# EAGLE library part 7818 (library 000_VansAircraft)
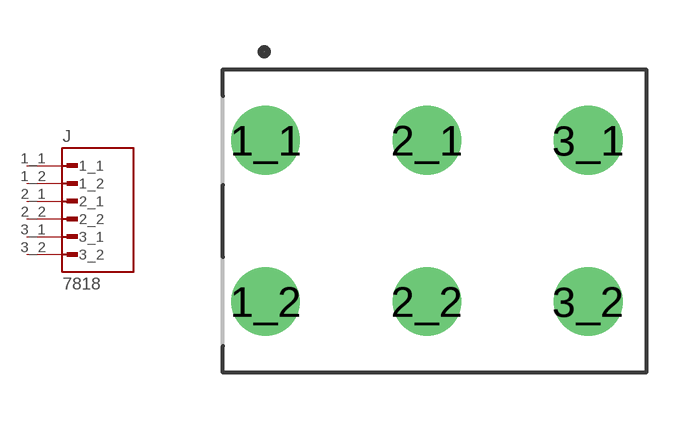
[diagram p3: symbol with the pads of KEYSTONE_7818; footprint KEYSTONE_7818]

Designator prefix J

## 7818 (MANUFACTURER: Keystone; MAXIMUM_PACKAGE_HEIGHT: 15.25mm; PARTREV: A; SNAPEDA_PN: 7818; STANDARD: Manufacturer Recommendations)  [KEYSTONE_7818]
1_1  1_1  pas
1_2  1_2  pas
2_1  2_1  pas
2_2  2_2  pas
3_1  3_1  pas
3_2  3_2  pas

## Footprint KEYSTONE_7818 (pad centres in mm)
drill 1.42: 1_1 -5,2.5; 1_2 -5,-2.5; 2_1 0,2.5; 2_2 0,-2.5; 3_1 5,2.5; 3_2 5,-2.5